# Altium integrated library Transistors - FETs, MOSFETs - Single.IntLib: 3 symbols
Pins are listed as number, name and electrical type; pins without a type are passive.

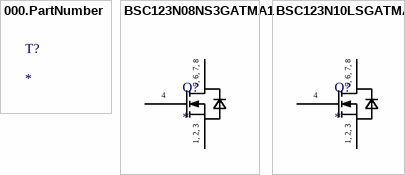
[diagram p0: symbols 000.PartNumber to BSC123N10LSGATMA1]

## 000.PartNumber
designator T?
Digikey Description; Manufacturer: *; Series: *; Package: *; FET Type: *; Technology: *; Current - Continuous Drain (Id) @ 25°C: *; Drive Voltage (Max Rds On, Min Rds On): *; Rds On (Max) @ Id, Vgs: *; Vgs(th) (Max) @ Id: *; Vgs (Max): *; FET Feature: *; Power Dissipation (Max): *; Operating Temperature: *; Mounting Type: *; Supplier Device Package: *; Package / Case: *; Drain to Source Voltage (Vdss): *; Gate Charge (Qg) (Max) @ Vgs: *; Input Capacitance (Ciss) (Max) @ Vds: *; Base Product Number: *; Ozdisan Link: *; Digikey Link: *; Farnell TR Link: *; Mouser Link: *

## BSC123N08NS3GATMA1
designator Q?
MOSFET N-CH 80V 11A/55A TDSON; Manufacturer: Infineon Technologies; FET Type: N-Channel; Current - Continuous Drain (Id) @ 25°C: 11A (Ta), 55A (Tc); Drive Voltage (Max Rds On, Min Rds On): 6V, 10V; Rds On (Max) @ Id, Vgs: 12.3mOhm @ 33A, 10V; Vgs(th) (Max) @ Id: 3.5V @ 33µA; Vgs (Max): ±20 V; Power Dissipation (Max): 2.5W (Ta), 66W (Tc); Gate Charge (Qg) (Max) @ Vgs: 25 nC @ 10 V; Input Capacitance (Ciss) (Max) @ Vds: 1870 pF @ 40 V; Base Product Number: BSC123; Series: OptiMOS™; Package: Tape & Reel (TR); Technology: MOSFET (Metal Oxide); FET Feature: -; Operating Temperature: -55°C ~ 150°C (TJ); Mounting Type: Surface Mount; Supplier Device Package: PG-TDSON-8-1; Package / Case: 8-PowerTDFN; Drain to Source Voltage (Vdss): 80 V; Ozdisan Link: -; Digikey Link: https://www.digikey.com/en/products/detail/infineon-technologies/BSC123N08NS3GATMA1/2080643; Farnell TR Link: https://tr.farnell.com/infineon/bsc123n08ns3gatma1/mosfet-n-ch-55a-80v-pg-tdson-8/dp/1775469?ost=bsc123n08ns3gatma1; Mouser Link: https://www.mouser.com.tr/ProductDetail/Infineon-Technologies/BSC123N08NS3GATMA1?qs=K00xGehIljtQ0xUH5qROpA%3D%3D
footprint INFINEON_PG-TDSON-8-1
pins: D DRAIN, G GATE, S SOURCE
text: 5, 6, 7, 8; 4; 1, 2, 3

## BSC123N10LSGATMA1
designator Q?
MOSFET N-CH 100V 10.6/71A 8TDSON; Manufacturer: Infineon Technologies; FET Type: N-Channel; Current - Continuous Drain (Id) @ 25°C: 10.6A (Ta), 71A (Tc); Drive Voltage (Max Rds On, Min Rds On): 4.5V, 10V; Rds On (Max) @ Id, Vgs: 12.3mOhm @ 50A, 10V; Vgs(th) (Max) @ Id: 2.4V @ 72µA; Vgs (Max): ±20 V; Power Dissipation (Max): 114 W (Tc); Gate Charge (Qg) (Max) @ Vgs: 68 nC @ 10 V; Input Capacitance (Ciss) (Max) @ Vds: 4900 pF @ 50 V; Base Product Number: BSC123; Series: OptiMOS™; Package: Tape & Reel (TR); Technology: MOSFET (Metal Oxide); FET Feature: -; Operating Temperature: -55°C ~ 150°C (TJ); Mounting Type: Surface Mount; Supplier Device Package: PG-TDSON-8-1; Package / Case: 8-PowerTDFN; Drain to Source Voltage (Vdss): 100 V; Ozdisan Link: -; Digikey Link: https://www.digikey.com/en/products/detail/infineon-technologies/BSC123N10LSGATMA1/2080644; Farnell TR Link: https://tr.farnell.com/infineon/bsc123n10lsgatma1/mosfet-n-ch-71a-100v-pg-tdson/dp/1775470?ost=bsc123n10lsgatma1; Mouser Link: https://www.mouser.com.tr/ProductDetail/Infineon-Technologies/BSC123N10LSGATMA1?qs=OwbwYO03UsLvQ%2FrMvOUreQ%3D%3D
footprint INFINEON_PG-TDSON-8-1
pins: D DRAIN, G SOURCE, G GATE
text: 5, 6, 7, 8; 4; 1, 2, 3